# Altium schematic symbol library Optoisolators.SchLib: 2 symbols
Pins are listed as number, name and electrical type; pins without a type are passive.

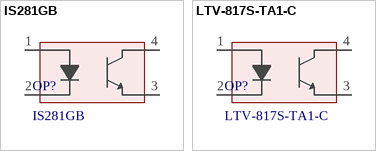
[diagram p0: symbols IS281GB to LTV-817S-TA1-C]

## IS281GB
designator OP?
OPTOCOUPLERTRANSMINI-FLAT; Manufacturer: Isocom; Number of Channels: 1; Max Output Voltage: 80V; Output Current per Channel: 50mA; Forward Voltage: 1.2V; Input Type: DC; Collector-emitter Voltage-Max: 200mV; Designed: Ferdi; Supplier 1: Digikey; Manufacturer Part Number: IS281GB; RoHS: Yes; Category: Optocouplers; Stock 1: 7525; Pricing 1: 1=0,6, 10=0,394, 100=0,2606 (USD); Mount: Surface Mount; Case/Package: SOIC; Number of Pins: 4; Min Operating Temperature: -55°C; Max Operating Temperature: 110°C; Packaging: Cut Tape; Series: -; RoHS Compliant: Yes; ComponentLink1URL: https://datasheet.octopart.com/IS281GB-Isocom-datasheet-42901035.pdf?src-supplier=Future+Electronics; ComponentLink1Description: https://datasheet.octopart.com/IS281GB-Isocom-datasheet-42901035.pdf?src-supplier=Future+Electronics; ComponentLink2URL: http://isocom.com/wp-content/uploads/2018/06/dd93223-is281-310518.pdf?src-supplier=Digikey; ComponentLink2Description: http://isocom.com/wp-content/uploads/2018/06/dd93223-is281-310518.pdf?src-supplier=Digikey; ComponentLink3URL: https://datasheet.octopart.com/IS281GB-Isocom-datasheet-110081083.pdf?src-supplier=LKR; ComponentLink3Description: https://datasheet.octopart.com/IS281GB-Isocom-datasheet-110081083.pdf?src-supplier=LKR; Supplier Part Number 1: IS281GBCT-ND
footprint SO4
pins: 1 Anode, 2 Cathode, 3 Emitter, 4 Collector

## LTV-817S-TA1-C
designator OP?
LTV Series Single Channel 35 V 5000 Vrms Transistor Output Optocoupler SMT-DIP-4; Manufacturer: Vishay Lite-On; Collector Emitter Breakdown Voltage: 35V; Reverse Breakdown Voltage: 6V; Forward Voltage: 1.4V; Forward Current: 50mA; Rise Time: 18000ns; Max Power Dissipation: 200mW; Number of Channels: 1; Collector Emitter Saturation Voltage: 200mV; Power Dissipation: 70mW; Isolation Voltage: 5kV; Current Transfer Ratio: 400%; Input Type: DC; Designed: Ferdi; Supplier 1: Digi-Key; Manufacturer Part Number: LTV-817S-TA1; RoHS: Yes; Category: Optocouplers; Stock 1: 208093; Pricing 1: 1=0,43, 10=0,263, 100=0,1512 (USD); ComponentLink1URL: https://datasheet.ciiva.com/16343/ltv-817s-ta1-16343868.pdf?src-supplier=Future+Electronics; ComponentLink1Description: https://datasheet.ciiva.com/16343/ltv-817s-ta1-16343868.pdf?src-supplier=Future+Electronics; ComponentLink2URL: https://datasheet.ciiva.com/19453/790719-19453509.pdf?src-supplier=Jameco; ComponentLink2Description: https://datasheet.ciiva.com/19453/790719-19453509.pdf?src-supplier=Jameco; ComponentLink3URL: https://datasheet.ciiva.com/15118/getdatasheetpartid-67872-15118462.pdf?src-supplier=Verical; ComponentLink3Description: https://datasheet.ciiva.com/15118/getdatasheetpartid-67872-15118462.pdf?src-supplier=Verical; ComponentLink4URL: https://datasheet.ciiva.com/12240/ltv-817-827-847-12240486.pdf?src-supplier=Mouser; ComponentLink4Description: https://datasheet.ciiva.com/12240/ltv-817-827-847-12240486.pdf?src-supplier=Mouser; ComponentLink5URL: https://datasheet.ciiva.com/6578/s-110-ltv-817m-s-s-ta-s-ta1-s-tpseries20130925-6578519.pdf?src-supplier=Digi-Key; ComponentLink5Description: https://datasheet.ciiva.com/6578/s-110-ltv-817m-s-s-ta-s-ta1-s-tpseries20130925-6578519.pdf?src-supplier=Digi-Key; ComponentLink6URL: https://datasheet.ciiva.com/6578/s-110-ltv-817m-s-s-ta-s-ta1-s-tpseries20130925-6578520.pdf?src-supplier=Digi-Key; ComponentLink6Description: https://datasheet.ciiva.com/6578/s-110-ltv-817m-s-s-ta-s-ta1-s-tpseries20130925-6578520.pdf?src-supplier=Digi-Key; ComponentLink7URL: https://datasheet.ciiva.com/6578/s-110-ltv-817m-s-s-ta-s-ta1-s-tpseries20130925-6578521.pdf?src-supplier=Digi-Key; ComponentLink7Description: https://datasheet.ciiva.com/6578/s-110-ltv-817m-s-s-ta-s-ta1-s-tpseries20130925-6578521.pdf?src-supplier=Digi-Key; Supplier Part Number 1: 160-1893-1-ND; Supplier 2: Arrow Electronics; Stock 2: 1000; Pricing 2: 1000=0,1139, 2000=0,0898, 10000=0,065, 25000=0,062, 50000=0,0613 (USD); Mount: Surface Mount; Case/Package: SMD/SMT; Number of Pins: 4; Min Operating Temperature: -30°C; Max Operating Temperature: 110°C; Packaging: Tape and Reel; Package Quantity: 1000; Collector Emitter Voltage (VCEO): 35V; Max Collector Current: 50mA; Max Output Voltage: 35V; Output Current per Channel: 50mA; Number of Elements: 1; Fall Time: 18000ns; Max Input Current: 50mA; Series: -; Collector-emitter Voltage-Max: 200mV; Isolation Voltage-Max: 5kV; Radiation Hardening: No; Lead Free: Lead Free; ComponentLink8URL: https://datasheet.ciiva.com/12240/ltv-817-827-847-12240648.pdf?src-supplier=Mouser; ComponentLink8Description: https://datasheet.ciiva.com/12240/ltv-817-827-847-12240648.pdf?src-supplier=Mouser; Supplier Part Number 2: LTV-817S-TA1-C; Height: 4.6mm
footprint SMD-4
pins: 1 Anode, 2 Cathode, 3 Emitter, 4 Collector